# Altium integrated library Xilinx Aerospace and Defense.IntLib: 197 symbols (part 2 of 56)
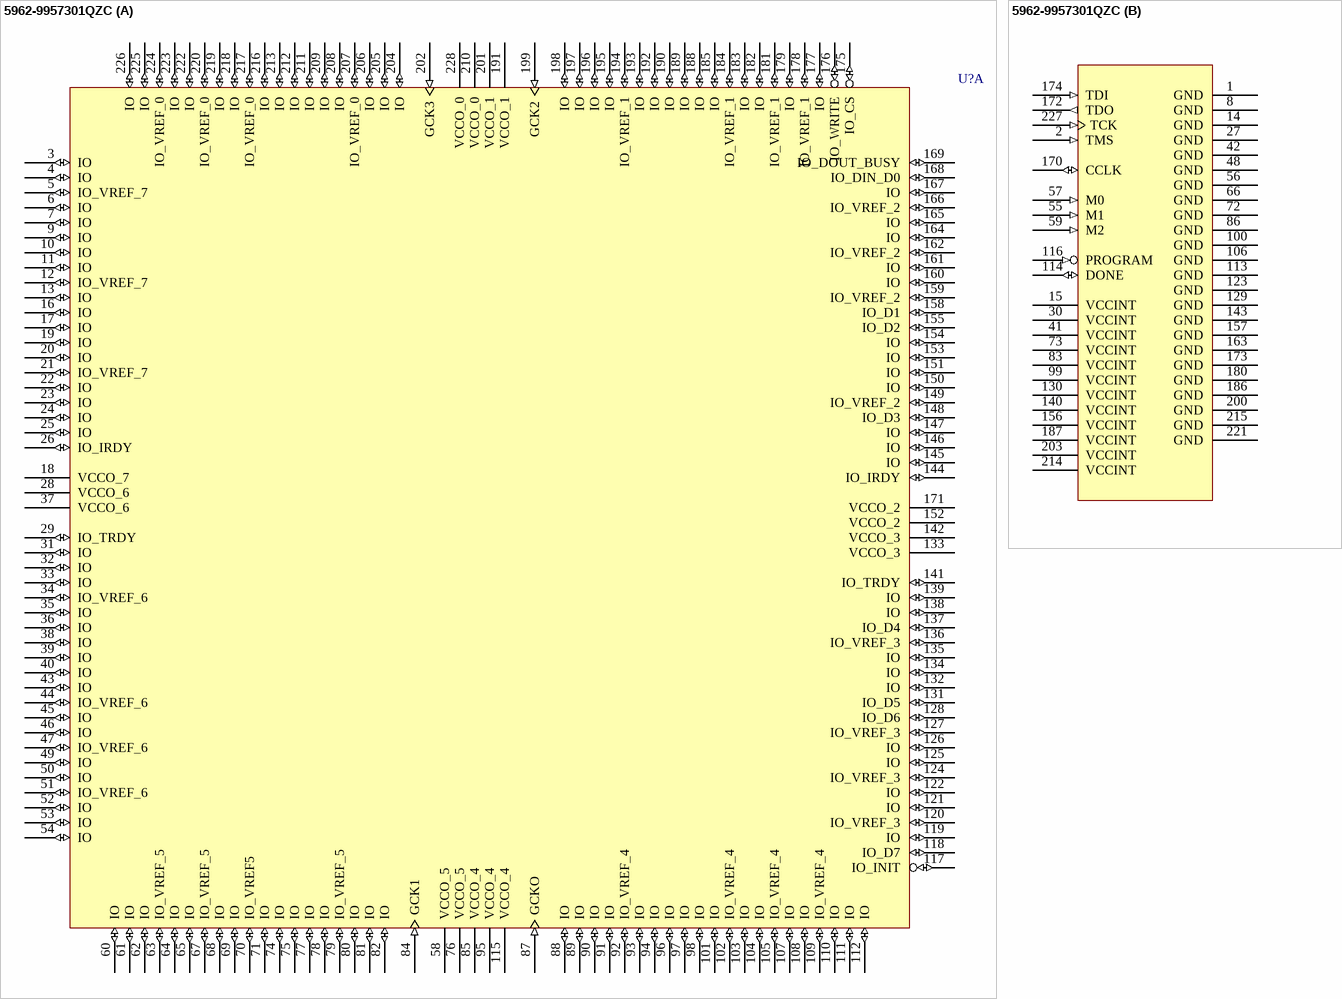
[diagram p115: symbol 5962-9957301QZC]

## 5962-9957301QZC
designator U?
QPro Virtex 2.5V QML High-Reliability FPGA, SMD Number for XQV600-4CB228Q, 162 User I/Os, 228-Pin CQFP, Speed Grade 4, MIL-PRF-38535 Grade; Published: 17-Nov-2009; DatasheetVersion: ver1.5, Dec-2001; PackageVersion: ver1.0.1, May-2008; PackageReference: CB228; Publisher: Altium Limited; PackageDescription: 228-Pin Ceramic Brazed Quad Flat Pack (CB228); ComponentLink1Description: QPro Virtex Datasheet; ComponentLink1URL: http://www.xilinx.com/support/documentation/data_sheets/ds002.pdf; ComponentLink2Description: CB228 Package Drawing; ComponentLink2URL: http://www.xilinx.com/support/documentation/package_specs/cb228.pdf; ComponentLink3Description: Xilinx.com Home; ComponentLink3URL: http://www.xilinx.com
footprint CB228_N (CQFP, 228-Leads, Body 39x39mm; Pitch 0.635mm, Gullwing Leadform, IPC Medium Density)
footprint CB228_L (CQFP, 228-Leads, Body 39x39mm; Pitch 0.635mm, Gullwing Leadform, IPC High Density)
footprint CB228_M (CQFP, 228-Leads, Body 39x39mm; Pitch 0.635mm, Gullwing Leadform, IPC Low Density)
signal-integrity model 5962-9957301_CB228 (Virtex)
part A pins: 3 IO (io), 4 IO (io), 5 IO_VREF_7 (io), 6 IO (io), 7 IO (io), 9 IO (io), 10 IO (io), 11 IO (io), 12 IO_VREF_7 (io), 13 IO (io), 16 IO (io), 17 IO (io), 18 VCCO_7 (power), 19 IO (io), 20 IO (io), 21 IO_VREF_7 (io), 22 IO (io), 23 IO (io), 24 IO (io), 25 IO (io), 26 IO_IRDY (io), 28 VCCO_6 (power), 29 IO_TRDY (io), 31 IO (io), 32 IO (io), 33 IO (io), 34 IO_VREF_6 (io), 35 IO (io), 36 IO (io), 37 VCCO_6 (power), 38 IO (io), 39 IO (io), 40 IO (io), 43 IO (io), 44 IO_VREF_6 (io), 45 IO (io), 46 IO (io), 47 IO_VREF_6 (io), 49 IO (io), 50 IO (io), 51 IO_VREF_6 (io), 52 IO (io), 53 IO (io), 54 IO (io), 58 VCCO_5 (power), 60 IO (io), 61 IO (io), 62 IO (io), 63 IO_VREF_5 (io), 64 IO (io), 65 IO (io), 67 IO_VREF_5 (io), 68 IO (io), 69 IO (io), 70 IO_VREF5 (io), 71 IO (io), 74 IO (io), 75 IO (io), 76 VCCO_5 (power), 77 IO (io), 78 IO (io), 79 IO_VREF_5 (io), 80 IO (io), 81 IO (io), 82 IO (io), 84 GCK1 (in), 85 VCCO_4 (power), 87 GCKO (in), 88 IO (io), 89 IO (io), 90 IO (io), 91 IO (io), 92 IO_VREF_4 (io), 93 IO (io), 94 IO (io), 95 VCCO_4 (power), 96 IO (io), 97 IO (io), 98 IO (io), 101 IO (io), 102 IO_VREF_4 (io), 103 IO (io), 104 IO (io), 105 IO_VREF_4 (io), 107 IO (io), 108 IO (io), 109 IO_VREF_4 (io), 110 IO (io), 111 IO (io), 112 IO (io), 115 VCCO_4 (power), 117 IO_INIT (io), 118 IO_D7 (io), 119 IO (io), 120 IO_VREF_3 (io), 121 IO (io), 122 IO (io), 124 IO_VREF_3 (io), 125 IO (io), 126 IO (io), 127 IO_VREF_3 (io), 128 IO_D6 (io), 131 IO_D5 (io), 132 IO (io), 133 VCCO_3 (power), 134 IO (io), 135 IO (io), 136 IO_VREF_3 (io), 137 IO_D4 (io), 138 IO (io), 139 IO (io), 141 IO_TRDY (io), 142 VCCO_3 (power), 144 IO_IRDY (io), 145 IO (io), 146 IO (io), 147 IO (io), 148 IO_D3 (io), 149 IO_VREF_2 (io), 150 IO (io), 151 IO (io), 152 VCCO_2 (power), 153 IO (io), 154 IO (io), 155 IO_D2 (io), 158 IO_D1 (io), 159 IO_VREF_2 (io), 160 IO (io), 161 IO (io), 162 IO_VREF_2 (io), 164 IO (io), 165 IO (io), 166 IO_VREF_2 (io), 167 IO (io), 168 IO_DIN_D0 (io), 169 IO_DOUT_BUSY (io), 171 VCCO_2 (power), 175 IO_CS (io), 176 IO_WRITE (io), 177 IO (io), 178 IO_VREF_1 (io), 179 IO (io), 181 IO_VREF_1 (io), 182 IO (io), 183 IO (io), 184 IO_VREF_1 (io), 185 IO (io), 188 IO (io), 189 IO (io), 190 IO (io), 191 VCCO_1 (power), 192 IO (io), 193 IO (io), 194 IO_VREF_1 (io), 195 IO (io), 196 IO (io), 197 IO (io), 198 IO (io), 199 GCK2 (in), 201 VCCO_1 (power), 202 GCK3 (in), 204 IO (io), 205 IO (io), 206 IO (io), 207 IO_VREF_0 (io), 208 IO (io), 209 IO (io), 210 VCCO_0 (power), 211 IO (io), 212 IO (io), 213 IO (io), 216 IO (io), 217 IO_VREF_0 (io), 218 IO (io), 219 IO (io), 220 IO_VREF_0 (io), 222 IO (io), 223 IO (io), 224 IO_VREF_0 (io), 225 IO (io), 226 IO (io), 228 VCCO_0 (power)
part B pins: 1 GND (power), 2 TMS (in), 8 GND (power), 14 GND (power), 15 VCCINT (power), 27 GND (power), 30 VCCINT (power), 41 VCCINT (power), 42 GND (power), 48 GND (power), 55 M1 (in), 56 GND (power), 57 M0 (in), 59 M2 (in), 66 GND (power), 72 GND (power), 73 VCCINT (power), 83 VCCINT (power), 86 GND (power), 99 VCCINT (power), 100 GND (power), 106 GND (power), 113 GND (power), 114 DONE (io), 116 PROGRAM (in), 123 GND (power), 129 GND (power), 130 VCCINT (power), 140 VCCINT (power), 143 GND (power), 156 VCCINT (power), 157 GND (power), 163 GND (power), 170 CCLK (io), 172 TDO (out), 173 GND (power), 174 TDI (in), 180 GND (power), 186 GND (power), 187 VCCINT (power), 200 GND (power), 203 VCCINT (power), 214 VCCINT (power), 215 GND (power), 221 GND (power), 227 TCK (in)

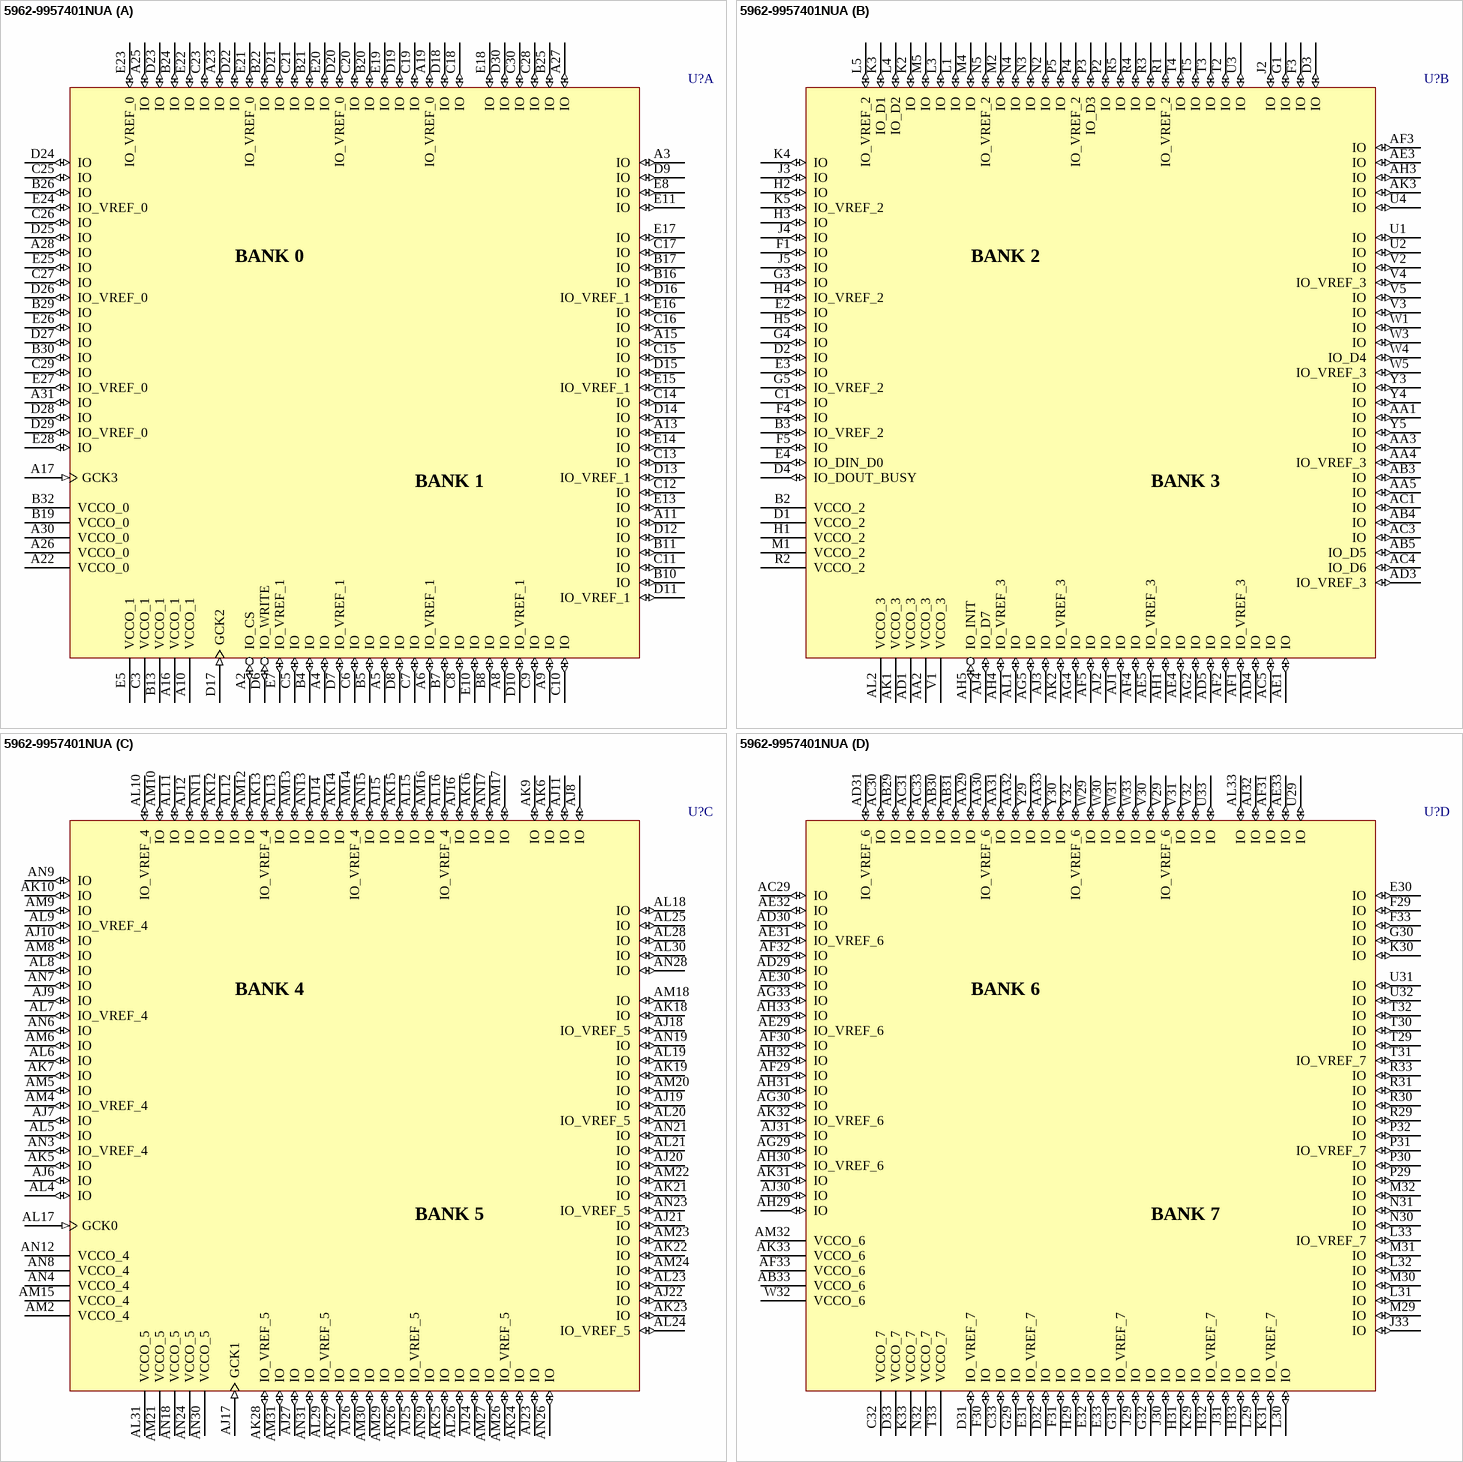
[diagram p14: symbol 5962-9957401NUA]

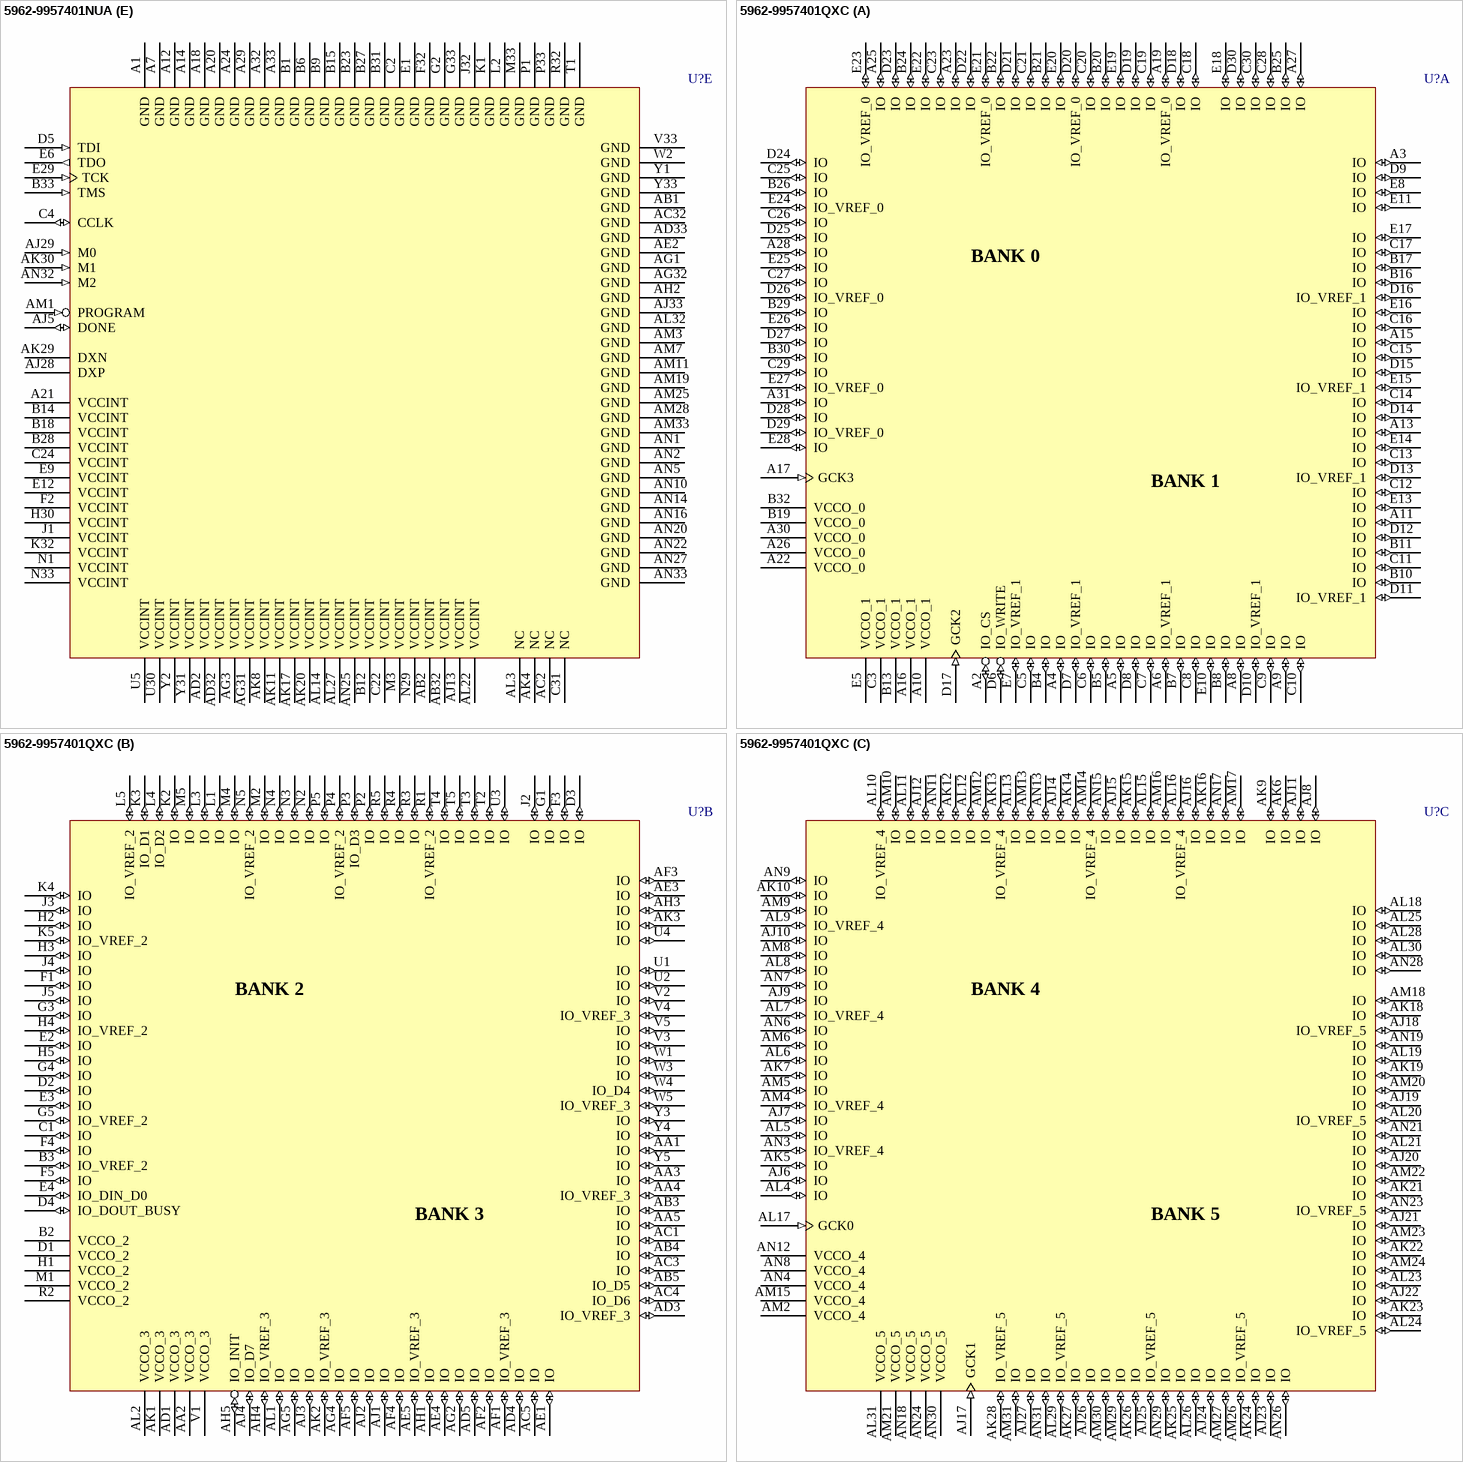
[diagram p15: symbols 5962-9957401NUA to 5962-9957401QXC]